# EAGLE library part I__ATMEL_ATINY2313 (library ..SMD)
8-bit AVR Microcontroller with 2K bytes In-System Programmable Flash
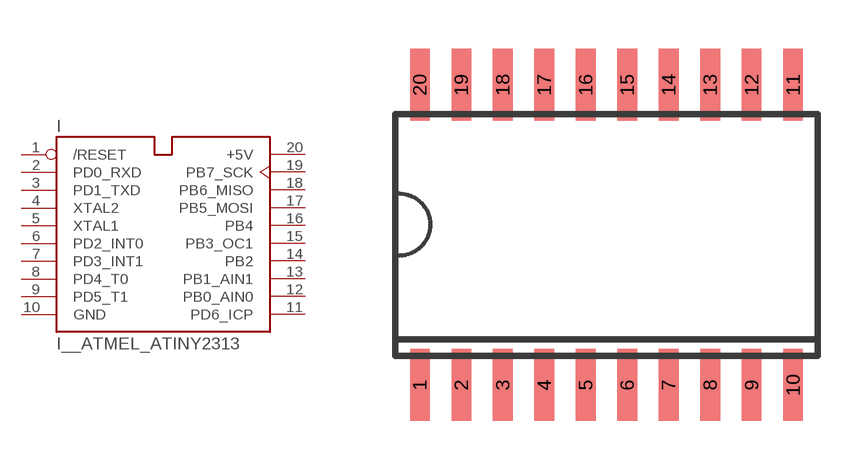
[diagram p352: symbol with the pads of SO-20; footprint SO-20]

Designator prefix I

## I__ATMEL_ATINY2313_SO-20  [SO-20]
1  /RESET  in
2  PD0_RXD  in
3  PD1_TXD  out
4  XTAL2
5  XTAL1
6  PD2_INT0
7  PD3_INT1
8  PD4_T0
9  PD5_T1
10  GND  pwr
11  PD6_ICP
12  PB0_AIN0
13  PB1_AIN1
14  PB2
15  PB3_OC1
16  PB4
17  PB5_MOSI
18  PB6_MISO
19  PB7_SCK
20  +5V  pwr

## Footprint SO-20 (pad centres in mm)
smd 0.6 x 2.2: 1 -5.715,-4.6; 2 -4.445,-4.6; 3 -3.175,-4.6; 4 -1.905,-4.6; 5 -0.635,-4.6; 6 0.635,-4.6; 7 1.905,-4.6; 8 3.175,-4.6; 9 4.445,-4.6; 10 5.715,-4.6; 11 5.715,4.6; 12 4.445,4.6; 13 3.175,4.6; 14 1.905,4.6; 15 0.635,4.6; 16 -0.635,4.6; 17 -1.905,4.6; 18 -3.175,4.6; 19 -4.445,4.6; 20 -5.715,4.6